# Altium footprint library IC_Cypress_CYBLE-012011-00_eec_0.PcbLib: 1 footprints
Each footprint in its own frame and in the unit in brackets; x right, y up, seen from the top. Pads: shape width x height; smd on the part's side, far side on the other; paste and mask are expansions set on the pad; w line width, h text height; cw(c..) or ccw(c..) is an arc to the next point about the centre after c.
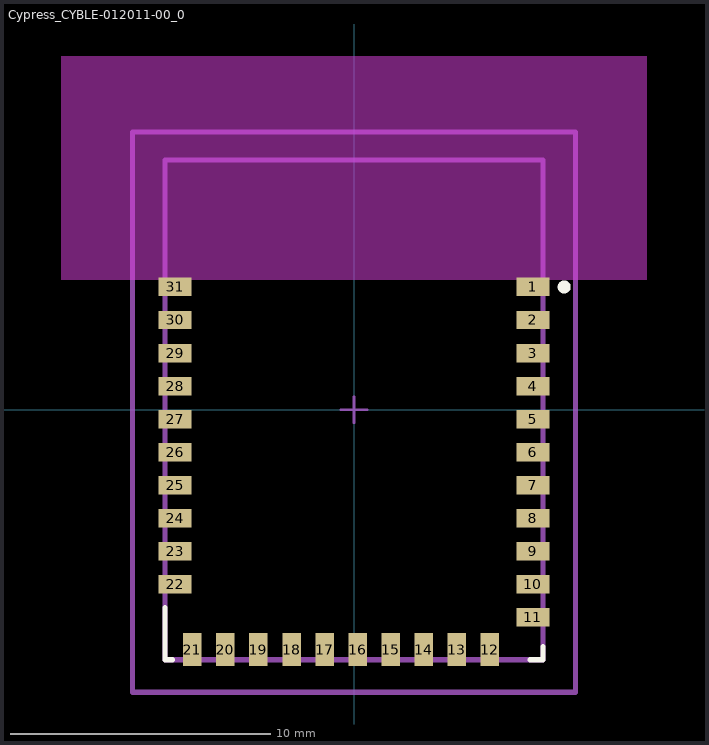
[diagram p0: the footprint, top view; thin cyan lines are the x and y axes]

## Cypress_CYBLE-012011-00_0 [mm]
pads (31):
  rect 1.27x0.71 smd paste+0 mask+0: 1(6.875,4.72) 2(6.875,3.45) 3(6.875,2.18) 4(6.875,0.91) 5(6.875,-0.36) 6(6.875,-1.63) 7(6.875,-2.9) 8(6.875,-4.17) 9(6.875,-5.44) 10(6.875,-6.71) 11(6.875,-7.98) 22(-6.875,-6.71) 23(-6.875,-5.44) 24(-6.875,-4.17) 25(-6.875,-2.9) 26(-6.875,-1.63) 27(-6.875,-0.36) 28(-6.875,0.91) 29(-6.875,2.18) 30(-6.875,3.45) 31(-6.875,4.72)
  rect 0.71x1.27 smd paste+0 mask+0: 12(5.22,-9.215) 13(3.95,-9.215) 14(2.68,-9.215) 15(1.41,-9.215) 16(0.14,-9.215) 17(-1.13,-9.215) 18(-2.4,-9.215) 19(-3.67,-9.215) 20(-4.94,-9.215) 21(-6.21,-9.215)
Top Overlay:
  circle w0.25: c8.075,4.72 r0.125
  lines w0.2: -7.26,-7.6 -7.26,-9.6 -6.97,-9.6 ; 6.76,-9.6 7.26,-9.6 7.26,-9.1
Keep-Out Layer:
  rectangle: -11.26,4.98 11.26,13.6
  rectangle: -11.26,4.98 11.26,13.6
Mechanical 10:
  lines w0.2: -8.51,-10.85 8.51,-10.85 8.51,10.675 -8.51,10.675 -8.51,-10.85
  text ".Designator" at 0,0.101 h1
Mechanical 12:
  lines w0.2: -7.26,-9.6 7.26,-9.6 7.26,9.6 -7.26,9.6 -7.26,-9.6
Mechanical 15:
  lines w0.1: -0.5,0 0.5,0 ; 0,-0.5 0,0.5
  lines w0.2: -8.51,-10.85 8.51,-10.85 8.51,10.675 -8.51,10.675 -8.51,-10.85
3D body "IC_Cypress_CYBLE-012011-00_eec.STEP": height 0.25, standoff 0, extent -8.51,-10.85 8.51,10.675